# Altium footprint library con-wf.PcbLib: 46 footprints (part 1 of 3)
Each footprint in its own frame and in the unit in brackets; x right, y up, seen from the top. Pads: shape width x height; smd on the part's side, far side on the other; paste and mask are expansions set on the pad; w line width, h text height; cw(c..) or ccw(c..) is an arc to the next point about the centre after c.
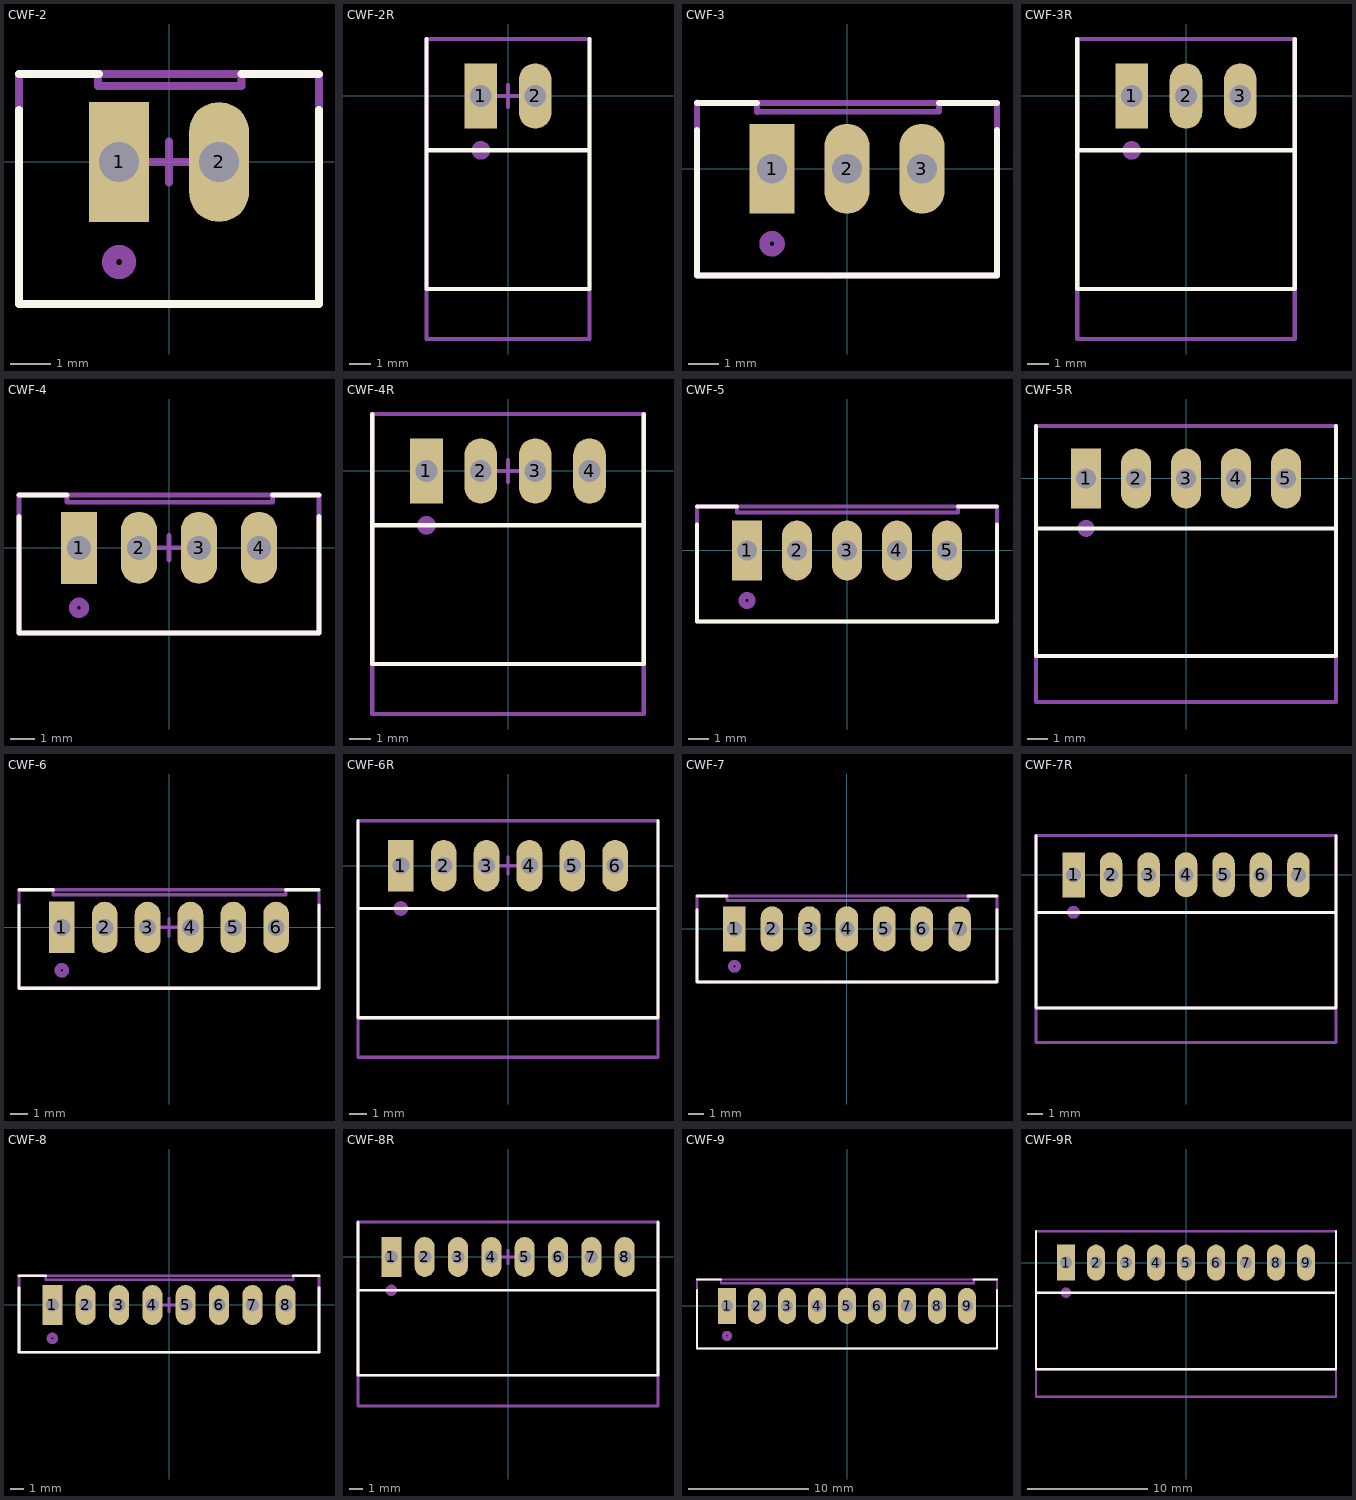
[diagram p0: the footprints below, top view; thin cyan lines are the x and y axes]

## CWF-2 [mm] "DS1069-2MV CONNFLY"
height 7
pads (2):
  rect 1.5x3 hole 1: 1(-1.25,0)
  oval 1.5x3 hole 1: 2(1.25,0)
Top Overlay:
  lines w0.2: -3.75,1.3 -3.75,-3.55 3.75,-3.55 3.75,1.3 ; -3.75,2.2 -1.75,2.2 ; 1.81,2.2 3.75,2.2
Top Assembly (Mech3):
  circle w0.35: c-1.25,-2.5 r0.25
  rectangle: 0.72,-0.5 1.751,0.5
  rectangle: -1.78,-0.5 -0.749,0.5
  lines w0.2: -1.78,2.2 -1.78,1.9 1.81,1.9 1.81,2.2 ; -3.75,-3.55 3.75,-3.55 3.75,2.2 -3.75,2.2 -3.75,-3.55
Top Courtyard:
  lines w0.2: -0.508,0 0.508,0 ; 0,-0.508 0,0.508 ; -3.75,-3.55 3.75,-3.55 3.75,2.2 -3.75,2.2 -3.75,-3.55
3D body "DS1069-2 CWF-2.stp": height 7, standoff -3.5, extent -3.75,-3.55 3.75,2.2

## CWF-2R [mm] "DS1069-2MR CONNFLY"
height 5.75
pads (2):
  rect 1.5x3 hole 1: 1(-1.25,0)
  oval 1.5x3 hole 1: 2(1.25,0)
Top Overlay:
  lines w0.2: -3.75,-2.5 3.75,-2.5 ; -3.75,2.62 -3.75,-8.88 3.75,-8.88 3.75,2.62
Top Assembly (Mech3):
  circle w0.35: c-1.25,-2.5 r0.25
  lines w0.2: -3.75,-8.88 3.75,-8.88 3.75,2.62 -3.75,2.62 -3.75,-8.88
Top Courtyard:
  lines w0.2: -0.508,0 0.508,0 ; 0,-0.508 0,0.508 ; -3.75,-11.176 -3.75,2.62 3.75,2.62 3.75,-11.176 -3.75,-11.176
3D body "DS1069-2 CWF-2R.stp": height 5.75, standoff -3.5, extent -3.75,-8.88 3.75,2.62

## CWF-3 [mm] "DS1069-3MV CONNFLY"
height 7
pads (3):
  rect 1.5x3 hole 1: 1(-2.5,0)
  oval 1.5x3 hole 1: 2(0,0) 3(2.5,0)
Top Overlay:
  lines w0.2: -5,1.3 -5,-3.55 5,-3.55 5,-1.2 5,1.3 ; -5,2.2 -3,2.2 ; 3.06,2.2 5,2.2
Top Assembly (Mech3):
  circle w0.35: c-2.5,-2.5 r0.25
  rectangle: -3.03,-0.5 -1.999,0.5
  rectangle: -0.53,-0.5 0.501,0.5
  rectangle: 1.97,-0.5 3.001,0.5
  lines w0.2: -3,2.2 -3,1.9 3.06,1.9 3.06,2.2 ; -5,-3.55 -5,2.2 5,2.2 5,-3.55 -5,-3.55
Top Courtyard:
  lines w0.2: -0.508,0 0.508,0 ; 0,-0.508 0,0.508 ; -5,-3.55 -5,2.2 5,2.2 5,-3.55 -5,-3.55
3D body "DS1069-3 CWF-3.stp": height 7, standoff -3.5, extent -5,-3.55 5,2.2

## CWF-3R [mm] "DS1069-3MR CONNFLY"
height 5.75
pads (3):
  rect 1.5x3 hole 1: 1(-2.5,0)
  oval 1.5x3 hole 1: 2(0,0) 3(2.5,0)
Top Overlay:
  lines w0.2: -5,-2.5 5,-2.5 ; -5,2.62 -5,-8.88 5,-8.88 5,2.62
Top Assembly (Mech3):
  circle w0.35: c-2.5,-2.5 r0.25
  lines w0.2: -5,-8.88 5,-8.88 5,2.62 -5,2.62 -5,-8.88
Top Courtyard:
  lines w0.2: -0.508,0 0.508,0 ; 0,-0.508 0,0.508 ; -5,-11.176 -5,2.62 5,2.62 5,-11.176 -5,-11.176
3D body "DS1069-3 CWF-3R.stp": height 5.75, standoff -3.5, extent -5,-8.88 5,2.62

## CWF-4 [mm] "DS1069-4MV CONNFLY"
height 7
pads (4):
  rect 1.5x3 hole 1: 1(-3.75,0)
  oval 1.5x3 hole 1: 2(-1.25,0) 3(1.25,0) 4(3.75,0)
Top Overlay:
  lines w0.2: -6.25,1.3 -6.25,-3.55 6.25,-3.55 6.25,1.3 ; -6.25,2.2 -4.25,2.2 ; 4.31,2.2 6.25,2.2
Top Assembly (Mech3):
  circle w0.35: c-3.75,-2.5 r0.25
  rectangle: -4.28,-0.5 -3.249,0.5
  rectangle: -1.78,-0.5 -0.749,0.5
  rectangle: 0.72,-0.5 1.751,0.5
  rectangle: 3.22,-0.5 4.251,0.5
  lines w0.2: -6.25,2.2 6.25,2.2 6.25,-3.55 -6.25,-3.55 -6.25,2.2 ; -4.25,2.2 -4.25,1.9 4.31,1.9 4.31,2.2
Top Courtyard:
  lines w0.2: -0.508,0 0.508,0 ; 0,-0.508 0,0.508 ; -6.25,-3.55 6.25,-3.55 6.25,2.2 -6.25,2.2 -6.25,-3.55
3D body "DS1069-4 CWF-4.stp": height 7, standoff -3.5, extent -6.25,-3.55 6.25,2.2

## CWF-4R [mm] "DS1069-4MR CONNFLY"
height 5.75
pads (4):
  rect 1.5x3 hole 1: 1(-3.75,0)
  oval 1.5x3 hole 1: 2(-1.25,0) 3(1.25,0) 4(3.75,0)
Top Overlay:
  lines w0.2: -6.25,-2.497 6.25,-2.501 ; -6.25,2.62 -6.25,-8.88 6.25,-8.88 6.25,2.62
Top Assembly (Mech3):
  circle w0.35: c-3.75,-2.5 r0.25
  lines w0.2: -6.25,-8.88 -6.25,2.62 6.25,2.62 6.25,-8.88 -6.25,-8.88
Top Courtyard:
  lines w0.2: -0.508,0 0.508,0 ; 0,-0.508 0,0.508 ; -6.25,-11.176 6.25,-11.176 6.25,2.62 -6.25,2.62 -6.25,-11.176
3D body "DS1069-4 CWF-4R.stp": height 5.75, standoff -3.5, extent -6.25,-8.88 6.25,2.62

## CWF-5 [mm] "DS1069-5MV CONNFLY"
height 7
pads (5):
  rect 1.5x3 hole 1: 1(-5,0)
  oval 1.5x3 hole 1: 2(-2.5,0) 3(0,0) 4(2.5,0) 5(5,0)
Top Overlay:
  lines w0.2: -7.5,1.3 -7.5,-3.55 7.5,-3.55 ; -7.5,2.2 -5.5,2.2 ; 5.56,2.2 7.5,2.2 ; 7.5,-3.55 7.5,-1.2 7.5,1.3
Top Assembly (Mech3):
  circle w0.35: c-5,-2.5 r0.25
  rectangle: -5.53,-0.5 -4.499,0.5
  rectangle: -3.03,-0.5 -1.999,0.5
  rectangle: -0.53,-0.5 0.501,0.5
  rectangle: 1.97,-0.5 3.001,0.5
  rectangle: 4.47,-0.5 5.501,0.5
  lines w0.2: -5.5,2.2 -5.5,1.9 5.56,1.9 5.56,2.2 ; -7.5,-3.55 -7.5,2.2 7.5,2.2 7.5,-3.55 -7.5,-3.55
Top Courtyard:
  lines w0.2: -0.508,0 0.508,0 ; 0,-0.508 0,0.508 ; -7.5,-3.55 7.5,-3.55 7.5,2.2 -7.5,2.2 -7.5,-3.55
3D body "DS1069-5 CWF-5.stp": height 7, standoff -3.5, extent -7.5,-3.55 7.5,2.2

## CWF-5R [mm] "DS1069-5MR CONNFLY"
height 5.75
pads (5):
  rect 1.5x3 hole 1: 1(-5,0)
  oval 1.5x3 hole 1: 2(-2.5,0) 3(0,0) 4(2.5,0) 5(5,0)
Top Overlay:
  lines w0.2: -7.5,-2.5 7.5,-2.5 ; -7.5,2.62 -7.5,-8.88 7.5,-8.88 7.5,2.62
Top Assembly (Mech3):
  circle w0.35: c-5,-2.5 r0.25
  lines w0.2: -7.5,-8.88 7.5,-8.88 7.5,2.62 -7.5,2.62 -7.5,-8.88
Top Courtyard:
  lines w0.2: -0.508,0 0.508,0 ; 0,-0.508 0,0.508 ; -7.5,-11.176 7.5,-11.176 7.5,2.62 -7.5,2.62 -7.5,-11.176
3D body "DS1069-5 CWF-5R.stp": height 5.75, standoff -3.5, extent -7.5,-8.88 7.5,2.62

## CWF-6 [mm] "DS1069-6MV CONNFLY"
height 7
pads (6):
  rect 1.5x3 hole 1: 1(-6.25,0)
  oval 1.5x3 hole 1: 2(-3.75,0) 3(-1.25,0) 4(1.25,0) 5(3.75,0) 6(6.25,0)
Top Overlay:
  lines w0.2: -8.75,1.3 -8.75,-3.55 8.75,-3.55 8.75,1.3 ; -8.75,2.2 -6.75,2.2 ; 6.81,2.2 8.75,2.2
Top Assembly (Mech3):
  circle w0.35: c-6.25,-2.5 r0.25
  rectangle: -6.78,-0.5 -5.749,0.5
  rectangle: -4.28,-0.5 -3.249,0.5
  rectangle: -1.78,-0.5 -0.749,0.5
  rectangle: 0.72,-0.5 1.751,0.5
  rectangle: 3.22,-0.5 4.251,0.5
  rectangle: 5.72,-0.5 6.751,0.5
  lines w0.2: -6.75,2.2 -6.75,1.9 6.81,1.9 6.81,2.2 ; -8.75,-3.55 -8.75,2.2 8.75,2.2 8.75,-3.55 -8.75,-3.55
Top Courtyard:
  lines w0.2: -0.508,0 0.508,0 ; 0,-0.508 0,0.508 ; 3.75,-3.55 -8.75,-3.55 ; -8.75,-3.55 -8.75,2.2 8.75,2.2 8.75,-3.55 -8.75,-3.55
3D body "DS1069-6 CWF-6.stp": height 7, standoff -3.5, extent -8.75,-3.55 8.75,2.2

## CWF-6R [mm] "DS1069-6MR CONNFLY"
height 5.75
pads (6):
  rect 1.5x3 hole 1: 1(-6.25,0)
  oval 1.5x3 hole 1: 2(-3.75,0) 3(-1.25,0) 4(1.25,0) 5(3.75,0) 6(6.25,0)
Top Overlay:
  lines w0.2: -8.75,-2.5 8.75,-2.5 ; -8.75,2.62 -8.75,-8.88 8.75,-8.88 8.75,2.62
Top Assembly (Mech3):
  circle w0.35: c-6.25,-2.5 r0.25
  lines w0.2: -8.75,-8.88 -8.75,2.62 8.75,2.62 8.75,-8.88 -8.75,-8.88
Top Courtyard:
  lines w0.2: -0.508,0 0.508,0 ; 0,-0.508 0,0.508 ; -8.75,-11.176 -8.75,2.62 8.75,2.62 8.75,-11.176 -8.75,-11.176
3D body "DS1069-6 CWF-6R.stp": height 5.75, standoff -3.5, extent -8.75,-8.88 8.75,2.62

## CWF-7 [mm] "DS1069-7MV CONNFLY"
height 7
pads (7):
  rect 1.5x3 hole 1: 1(-7.5,0)
  oval 1.5x3 hole 1: 2(-5,0) 3(-2.5,0) 4(0,0) 5(2.5,0) 6(5,0) 7(7.5,0)
Top Overlay:
  lines w0.2: -10,1.3 -10,-3.55 10,-3.55 10,-1.2 10,1.3 ; -10,2.2 -8,2.2 ; 8.06,2.2 10,2.2
Top Assembly (Mech3):
  circle w0.35: c-7.5,-2.5 r0.25
  rectangle: -8.03,-0.5 -6.999,0.5
  rectangle: -5.53,-0.5 -4.499,0.5
  rectangle: -3.03,-0.5 -1.999,0.5
  rectangle: -0.53,-0.5 0.501,0.5
  rectangle: 1.97,-0.5 3.001,0.5
  rectangle: 4.47,-0.5 5.501,0.5
  rectangle: 6.97,-0.5 8.001,0.5
  lines w0.2: -8,2.2 -8,1.9 8.06,1.9 8.06,2.2 ; -10,-3.55 -10,2.2 10,2.2 10,-3.55 -10,-3.55
Top Courtyard:
  lines w0.2: -7.5,-3.55 7.5,-3.55 ; -0.508,0 0.508,0 ; 0,-0.508 0,0.508 ; -10,-3.55 -10,2.2 10,2.2 10,-3.55 -10,-3.55
3D body "DS1069-7 CWF-7.stp": height 7, standoff -3.5, extent -10,-3.55 10,2.2

## CWF-7R [mm] "DS1069-7MR CONNFLY"
height 5.75
pads (7):
  rect 1.5x3 hole 1: 1(-7.5,0)
  oval 1.5x3 hole 1: 2(-5,0) 3(-2.5,0) 4(0,0) 5(2.5,0) 6(5,0) 7(7.5,0)
Top Overlay:
  lines w0.2: -10,-2.5 10,-2.5 ; -10,2.62 -10,-8.88 10,-8.88 10,2.62
Top Assembly (Mech3):
  circle w0.35: c-7.5,-2.5 r0.25
  lines w0.2: -10,-8.88 -10,2.62 10,2.62 10,-8.88 -10,-8.88
Top Courtyard:
  lines w0.2: -0.508,0 0.508,0 ; 0,-0.508 0,0.508 ; -10,-11.176 -10,2.62 10,2.62 10,-11.176 -10,-11.176
3D body "DS1069-7 CWF-7R.stp": height 5.75, standoff -3.5, extent -10,-8.88 10,2.62

## CWF-8 [mm] "DS1069-8MV CONNFLY"
height 7
pads (8):
  rect 1.5x3 hole 1: 1(-8.75,0)
  oval 1.5x3 hole 1: 2(-6.25,0) 3(-3.75,0) 4(-1.25,0) 5(1.25,0) 6(3.75,0) 7(6.25,0) 8(8.75,0)
Top Overlay:
  lines w0.2: -11.25,1.3 -11.25,-3.55 11.25,-3.55 11.25,1.3 ; -11.25,2.2 -9.25,2.2 ; 9.31,2.2 11.25,2.2
Top Assembly (Mech3):
  circle w0.35: c-8.75,-2.5 r0.25
  rectangle: -9.28,-0.5 -8.249,0.5
  rectangle: -6.78,-0.5 -5.749,0.5
  rectangle: -4.28,-0.5 -3.249,0.5
  rectangle: -1.78,-0.5 -0.749,0.5
  rectangle: 0.72,-0.5 1.751,0.5
  rectangle: 3.22,-0.5 4.251,0.5
  rectangle: 5.72,-0.5 6.751,0.5
  rectangle: 8.22,-0.5 9.251,0.5
  lines w0.2: -9.25,2.2 -9.25,1.9 9.31,1.9 9.31,2.2 ; -11.25,-3.55 -11.25,2.2 11.25,2.2 11.25,-3.55 -11.25,-3.55
Top Courtyard:
  lines w0.2: -0.508,0 0.508,0 ; 0,-0.508 0,0.508 ; 1.25,-3.55 -11.25,-3.55 ; -11.25,-3.55 11.25,-3.55 11.25,2.2 -11.25,2.2 -11.25,-3.55
3D body "DS1069-8 CWF-8.stp": height 7, standoff -3.5, extent -11.25,-3.55 11.25,2.2

## CWF-8R [mm] "DS1069-8MR CONNFLY"
height 5.75
pads (8):
  rect 1.5x3 hole 1: 1(-8.75,0)
  oval 1.5x3 hole 1: 2(-6.25,0) 3(-3.75,0) 4(-1.25,0) 5(1.25,0) 6(3.75,0) 7(6.25,0) 8(8.75,0)
Top Overlay:
  lines w0.2: -11.25,-2.5 11.25,-2.5 ; -11.25,2.62 -11.25,-8.88 11.25,-8.88 11.25,2.62
Top Assembly (Mech3):
  circle w0.35: c-8.75,-2.5 r0.25
  lines w0.2: -11.25,-8.88 -11.25,2.62 11.25,2.62 11.25,-8.88 -11.25,-8.88
Top Courtyard:
  lines w0.2: -0.508,0 0.508,0 ; 0,-0.508 0,0.508 ; -11.25,-11.176 -11.25,2.62 11.25,2.62 11.25,-11.176 -11.25,-11.176
3D body "DS1069-8 CWF-8R.stp": height 5.75, standoff -3.5, extent -11.25,-8.88 11.25,2.62

## CWF-9 [mm] "DS1069-9MV CONNFLY"
height 7
pads (9):
  rect 1.5x3 hole 1: 1(-10,0)
  oval 1.5x3 hole 1: 2(-7.5,0) 3(-5,0) 4(-2.5,0) 5(0,0) 6(2.5,0) 7(5,0) 8(7.5,0) 9(10.001,0)
Top Overlay:
  lines w0.2: -12.5,1.3 -12.5,-3.55 12.5,-3.55 12.5,-1.2 12.5,1.3 ; -12.5,2.2 -10.5,2.2 ; 10.56,2.2 12.5,2.2
Top Assembly (Mech3):
  circle w0.35: c-10,-2.5 r0.25
  rectangle: 9.47,-0.5 10.501,0.5
  rectangle: 6.97,-0.5 8.001,0.5
  rectangle: 4.47,-0.5 5.501,0.5
  rectangle: 1.97,-0.5 3.001,0.5
  rectangle: -0.53,-0.5 0.501,0.5
  rectangle: -3.03,-0.5 -1.999,0.5
  rectangle: -5.53,-0.5 -4.499,0.5
  rectangle: -8.03,-0.5 -6.999,0.5
  rectangle: -10.53,-0.5 -9.499,0.5
  lines w0.2: -10.5,2.2 -10.5,1.9 10.56,1.9 10.56,2.2 ; -12.5,-3.55 -12.5,2.2 12.5,2.2 12.5,-3.55 -12.5,-3.55
Top Courtyard:
  lines w0.2: -0.508,0 0.508,0 ; 0,-0.508 0,0.508 ; -12.5,-3.55 12.5,-3.55 12.5,2.2 -12.5,2.2 -12.5,-3.55
3D body "DS1069-9 CWF-9.stp": height 7, standoff -3.5, extent -12.5,-3.55 12.5,2.2

## CWF-9R [mm] "DS1069-9MR CONNFLY"
height 5.75
pads (9):
  rect 1.5x3 hole 1: 1(-10,0)
  oval 1.5x3 hole 1: 2(-7.5,0) 3(-5,0) 4(-2.5,0) 5(0,0) 6(2.5,0) 7(5,0) 8(7.5,0) 9(10,0)
Top Overlay:
  lines w0.2: -12.5,-2.5 12.5,-2.5 ; -12.5,2.62 -12.5,-8.88 12.5,-8.88 12.5,2.62
Top Assembly (Mech3):
  circle w0.35: c-10,-2.5 r0.25
  lines w0.2: -12.5,2.62 12.5,2.62 12.5,-8.88 -12.5,-8.88 -12.5,2.62
Top Courtyard:
  lines w0.2: -0.508,0 0.508,0 ; 0,-0.508 0,0.508 ; -12.5,-11.176 -12.5,2.62 12.5,2.62 12.5,-11.176 -12.5,-11.176
3D body "DS1069-9 CWF-9R.stp": height 5.75, standoff -3.5, extent -12.5,-8.88 12.5,2.62